# Altium schematic symbol library Passives.SchLib: 11 symbols
Pins are listed as number, name and electrical type; pins without a type are passive.

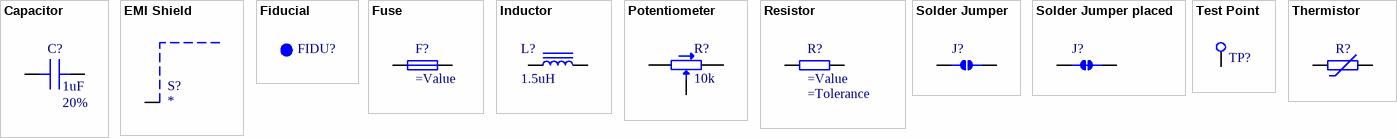
[diagram p0: symbols Capacitor to Thermistor]

## Capacitor
designator C?  value 1uF  Tolerance: 20%  (hidden comment: *)
SMT Capacitor
pins: 1, 2

## EMI Shield
designator S?
EMI Shielding Gasket; PartNumber: *
pins: 1

## Fiducial
designator FIDU?  (value not drawn)  (no BOM)
Fiducial

## Fuse
designator F?  (value not drawn)
Fuse; Value: =Value
pins: 1, 2

## Inductor
designator L?, comment 1.5uH
SMT Inductor; Value: 1.5uH
pins: 1, 2

## Potentiometer
designator R?, comment 10k
Potentiometer; Value: 10k
pins: 1, 1, 2, 2, 3

## Resistor
designator R?  (value not drawn)
SMT Resistor; Value: =Value; Tolerance: =Tolerance
pins: 1, 2

## Solder Jumper
designator J?  (value not drawn)  (no BOM)
Solder Jumper
pins: 1, 2

## Solder Jumper placed
designator J?  (value not drawn)  (net tie, no BOM)
Solder Jumper with the jumper placed initially
pins: 1, 2

## Test Point
designator TP?  (value not drawn)  (no BOM)
Test Point
pins: 1 TP

## Thermistor
designator R?
SMT Resistor; Value: ="Resistance in Ohms @ 25C"
pins: 1, 2